# EAGLE library part MAGJACK (library Icotech_Eagle_Library)
RJ-45 with LEDs
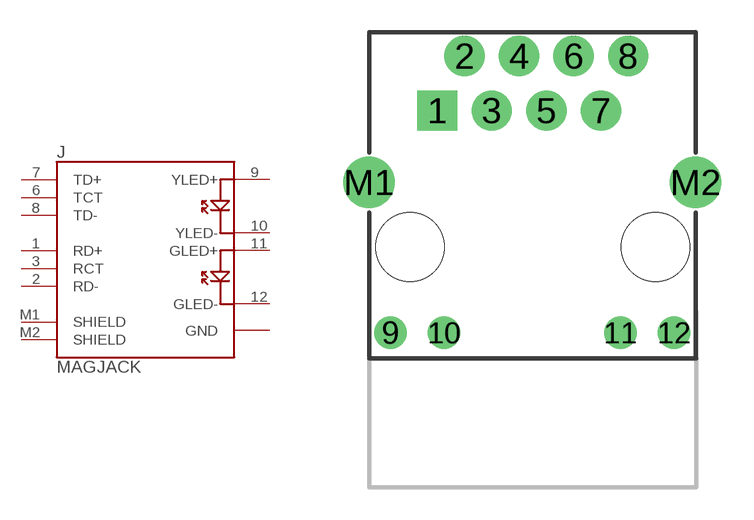
[diagram p5: symbol with the pads of MAGJACK; footprint MAGJACK]

Designator prefix J

## MAGJACK  [MAGJACK]
1  RD+
2  RD-
3  RCT
6  TCT
7  TD+
8  TD-
9  YLED+
10  YLED-
11  GLED+
12  GLED-
M1  SHIELD
M2  SHIELD

## Footprint MAGJACK (pad centres in mm)
drill 1 pad 1.88 square: 1 -10.16,6.345
drill 1 pad 1.88: 2 -8.89,8.885; 3 -7.62,6.345; 4 -6.35,8.885; 5 -5.08,6.345; 6 -3.81,8.885; 7 -2.54,6.345; 8 -1.27,8.885
drill 1 pad 1.27: 9 -12.335,-4; 10 -9.835,-4; 11 -1.635,-4; 12 0.865,-4
drill 1.6 pad 2.184: M1 -13.335,3; M2 1.865,3
hole 3.2 at -11.43,-0.005
hole 3.2 at 0,-0.005